# EAGLE library part LM4880 (library Mine)
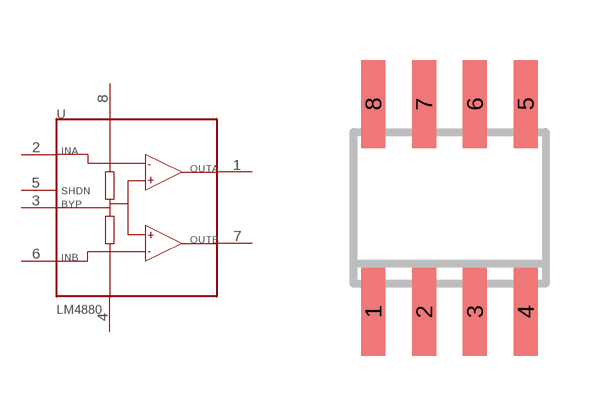
[diagram p30: symbol with the pads of SO-08; footprint SO-08]

Designator prefix -

## LM4880  [SO-08]
1  OUTA  out
2  INA  in
3  BYP  in
4  GND  pwr
5  STDN  in
6  INB  in
7  OUTB  out
8  V+  pwr

## Footprint SO-08 (pad centres in mm)
D (R-PDSO-G8) Plastic Small Outline Package Source: http://focus.ti.com/lit/ds/symlink/sn65als176.pdf
smd 0.6 x 2.2: 1 -1.905,-2.6; 2 -0.635,-2.6; 3 0.635,-2.6; 4 1.905,-2.6; 5 1.905,2.6; 6 0.635,2.6; 7 -0.635,2.6; 8 -1.905,2.6